# EAGLE library part PESC-02-12-02-01-X-VT-LC(DISTRIBUTION-BRICKS) (library CONN, Distribution-Bricks)
16 (12 + 4 Power) Position Receptacle Connector Through Hole Gold
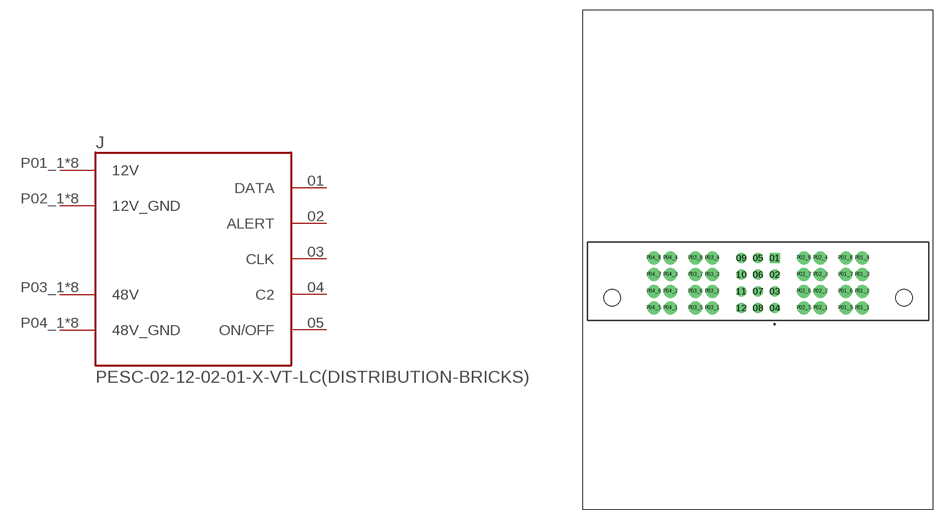
[diagram p1: symbol with the pads of SAMTEC_PESC-02-12-02-01-X-VT-LC(D-B); footprint SAMTEC_PESC-02-12-02-01-X-VT-LC(D-B)]

Designator prefix J

## PESC-02-12-02-01-X-VT-LC(DISTRIBUTION-BRICKS) (MANUFACTURER: Samtec; MAXIMUM_PACKAGE_HEIGHT: 17.04mm; PARTREV: B; STANDARD: Manufacturer Recommendations)  [SAMTEC_PESC-02-12-02-01-X-VT-LC(D-B)]
01  DATA  pas
02  ALERT  pas
03  CLK  pas
04  C2  pas
05  ON/OFF  pas
P01_1  12V  pwr
P01_2  12V  pwr
P01_3  12V  pwr
P01_4  12V  pwr
P01_5  12V  pwr
P01_6  12V  pwr
P01_7  12V  pwr
P01_8  12V  pwr
P02_1  12V_GND  pwr
P02_2  12V_GND  pwr
P02_3  12V_GND  pwr
P02_4  12V_GND  pwr
P02_5  12V_GND  pwr
P02_6  12V_GND  pwr
P02_7  12V_GND  pwr
P02_8  12V_GND  pwr
P03_1  48V  pwr
P03_2  48V  pwr
P03_3  48V  pwr
P03_4  48V  pwr
P03_5  48V  pwr
P03_6  48V  pwr
P03_7  48V  pwr
P03_8  48V  pwr
P04_1  48V_GND  pwr
P04_2  48V_GND  pwr
P04_3  48V_GND  pwr
P04_4  48V_GND  pwr
P04_5  48V_GND  pwr
P04_6  48V_GND  pwr
P04_7  48V_GND  pwr
P04_8  48V_GND  pwr

## Footprint SAMTEC_PESC-02-12-02-01-X-VT-LC(D-B) (pad centres in mm)
drill 1.02 square: 01 2.54,6.03
drill 1.02: 02 2.54,3.49; 03 2.54,0.95; 04 2.54,-1.59; 05 0,6.03; 06 0,3.49; 07 0,0.95; 08 0,-1.59; 09 -2.54,6.03; 10 -2.54,3.49; 11 -2.54,0.95; 12 -2.54,-1.59
drill 1.32: P01_1 15.875,-1.59; P01_2 15.875,0.95; P01_3 15.875,3.49; P01_4 15.875,6.03; P01_5 13.335,-1.59; P01_6 13.335,0.95; P01_7 13.335,3.49; P01_8 13.335,6.03; P02_1 9.525,-1.59; P02_2 9.525,0.95; P02_3 9.525,3.49; P02_4 9.525,6.03; P02_5 6.985,-1.59; P02_6 6.985,0.95; P02_7 6.985,3.49; P02_8 6.985,6.03; P03_1 -6.985,-1.59; P03_2 -6.985,0.95; P03_3 -6.985,3.49; P03_4 -6.985,6.03; P03_5 -9.525,-1.59; P03_6 -9.525,0.95; P03_7 -9.525,3.49; P03_8 -9.525,6.03; P04_1 -13.335,-1.59; P04_2 -13.335,0.95; P04_3 -13.335,3.49; P04_4 -13.335,6.03; P04_5 -15.875,-1.59; P04_6 -15.875,0.95; P04_7 -15.875,3.49; P04_8 -15.875,6.03
hole 2.49 at -22.225,0
hole 2.49 at 22.225,0